# EAGLE library part 1X06_PIN_HEADER (library NSL)
6 Pin Edge Connector Standard 6-pin 0.1" header.
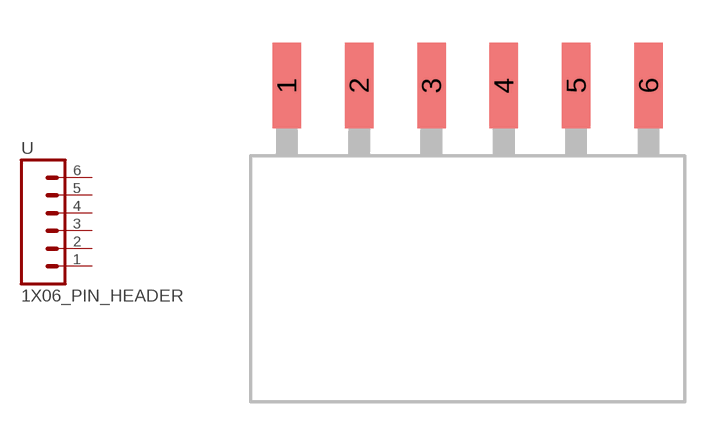
[diagram p4: symbol with the pads of 1X06_EDGE; footprint 1X06_EDGE]

Designator prefix -

## 1X06_PIN_HEADER  [1X06_EDGE]
1  1  pas
2  2  pas
3  3  pas
4  4  pas
5  5  pas
6  6  pas

## Footprint 1X06_EDGE (pad centres in mm)
smd 1 x 3: 1 -6.35,-0.08; 2 -3.81,-0.08; 3 -1.27,-0.08; 4 1.27,-0.08; 5 3.81,-0.08; 6 6.35,-0.08